# EAGLE library part WE-RJ45_10G_7499611420 (library WE-RJ45_10G)
WE-RJ45 10G Transformer Characteristics RJ45 Connector with integrated transformer / common mode choke Power over Ethernet up to 50 Watt and speeds up to 10 Gbit/s Available in SMD, THT and THT with USB Compliant with standards: IEEE 802.3u, IEEE 802.3ab, IEEE 802.3af, IEEE 802.3at, IEEE 802.3an and upcoming IEE 802.3bt Applications Suitable for industrial temperatures from –40 °C up to +85 °C Compatible to Industrial Ethernet systems like EtherCAT or Profinet Compliant with most IC’s for Ethernet applications such as Microchip, Texas Instruments, Broadcom, Linear Technology Hubs, Routers, Switches, IP cameras, IoT applications <https://www.we-online.com/catalog/media/o122818v209%20Family_WE-RJ45LAN_10G_7499611420_a.jpg> Details see: https://www.we-online.com/catalog/en/WE-LAN-RJ45-10G Create By Ella Wu 2020-10-26 2020 (C) Wurth Elektronik
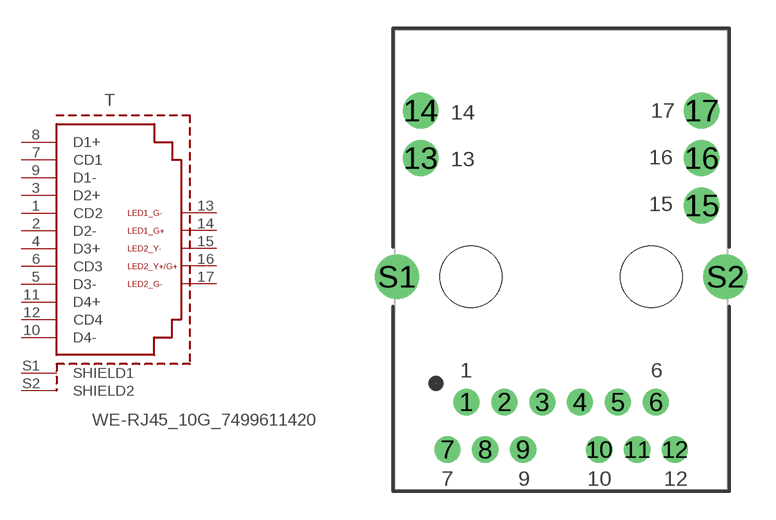
[diagram p3: symbol with the pads of 7499611420; footprint 7499611420]

Designator prefix T

## WE-RJ45_10G_7499611420 (DATA-RATE: 10 Gbase-T; DATASHEET-URL: https://www.we-online.com/catalog/datasheet/7499611420.pdf; LED: yellow/green-green; MOUNT: THT; PART-NUMBER: 7499611420; POE: non-PoE; PORTS: 1; USB: No; VALUE: 7499611420)  [7499611420]
1  CD2
2  D2-
3  D2+
4  D3+
5  D3-
6  CD3
7  CD1
8  D1+
9  D1-
10  D4-
11  D4+
12  CD4
13  LED1_G-
14  LED1_G+
15  LED2_Y-
16  LED2_Y+_G+
17  LED2_G-
S1  SHIELD1  pwr
S2  SHIELD2  pwr

## Footprint 7499611420 (pad centres in mm)
WE-RJ45 10G Transformer 10G Base-T MAX HEIGHT=11.3mm
drill 0.89: 1 -5.07,-6.71; 2 -3.04,-6.71; 3 -1.01,-6.71; 4 1.01,-6.71; 5 3.04,-6.71; 6 5.07,-6.71; 7 -6.09,-9.25; 8 -4.06,-9.25; 9 -2.03,-9.25; 10 2.03,-9.25; 11 4.06,-9.25; 12 6.09,-9.25
drill 1.27: 13 -7.52,6.35; 14 -7.52,8.89; 15 7.52,3.81; 16 7.52,6.35; 17 7.52,8.89
drill 1.57: S1 -8.79,0; S2 8.79,0
hole 3.3 at -4.825,0
hole 3.3 at 4.825,0